# Altium footprint library Pcb_Tactile_Switch.PcbLib: 1 footprints
Each footprint in its own frame and in the unit in brackets; x right, y up, seen from the top. Pads: shape width x height; smd on the part's side, far side on the other; paste and mask are expansions set on the pad; w line width, h text height; cw(c..) or ccw(c..) is an arc to the next point about the centre after c.
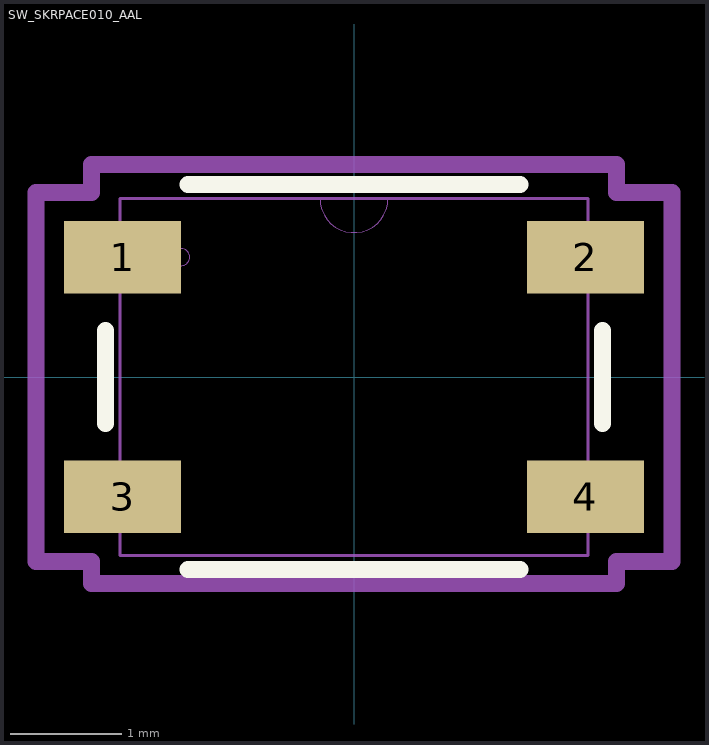
[diagram p0: the footprint, top view; thin cyan lines are the x and y axes]

## SW_SKRPACE010_AAL [mm]
pads (4):
  rect 1.05x0.65 smd paste+0 mask+0: 1(-2.075,1.075) 2(2.075,1.075) 3(-2.075,-1.075) 4(2.075,-1.075)
Top Overlay:
  lines w0.152: -2.227,-0.417 -2.227,0.417 ; -1.488,-1.727 1.488,-1.727 ; -1.488,1.727 1.488,1.727 ; 2.227,-0.417 2.227,0.417
Mechanical 13:
  circle w0: c-1.55,1.075 r0.076
  lines w0: -0.305,1.6 ccw(c0,1.6) 0.305,1.6
  lines w0.025: -2.1,-1.6 2.1,-1.6 2.1,1.6 -2.1,1.6 -2.1,-1.6
Mechanical 15:
  lines w0.152: -2.854,-1.654 -2.854,1.654 -2.354,1.654 -2.354,1.908 2.354,1.908 2.354,1.654 2.854,1.654 2.854,-1.654 2.354,-1.654 2.354,-1.854 -2.354,-1.854 -2.354,-1.654 -2.854,-1.654
3D body "SKRPACE010 v4.step": height 2.5, standoff -0.05, extent -2.446,-1.6 2.446,1.6